# EAGLE library part DDRAM (library BaseApp)
DDRAM TSSOP-66
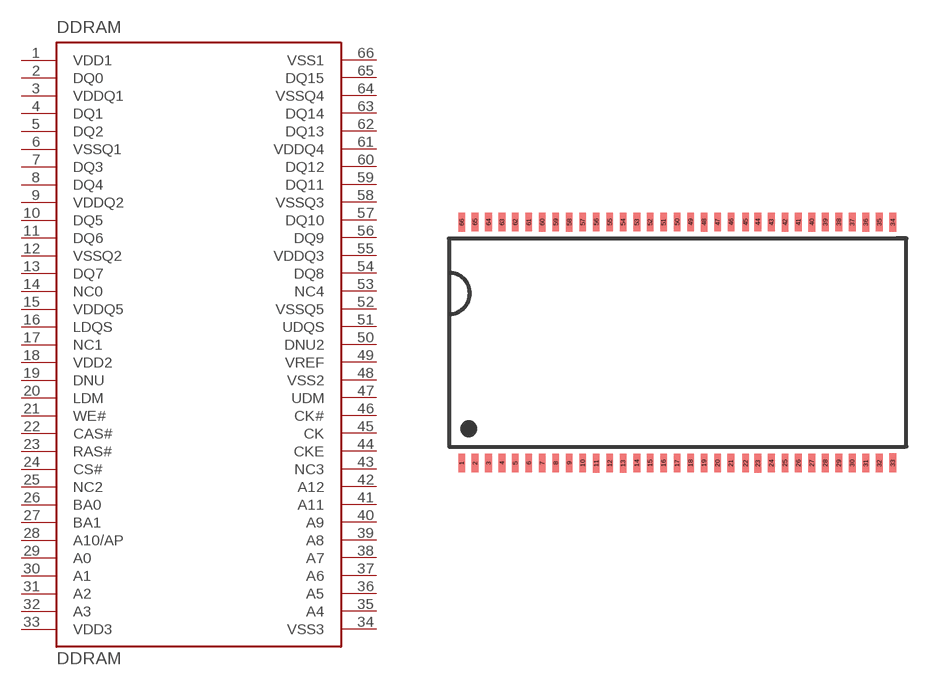
[diagram p1: symbol with the pads of 66TSSOP; footprint 66TSSOP]

Designator prefix DDRAM

## DDRAM-66PIN  [66TSSOP]
1  VDD1  pwr
2  DQ0
3  VDDQ1
4  DQ1
5  DQ2
6  VSSQ1
7  DQ3
8  DQ4
9  VDDQ2
10  DQ5
11  DQ6
12  VSSQ2
13  DQ7
14  NC0  nc
15  VDDQ5
16  LDQS
17  NC1  nc
18  VDD2
19  DNU
20  LDM
21  WE#
22  CAS#
23  RAS#
24  CS#
25  NC2  nc
26  BA0
27  BA1
28  A10/AP
29  A0
30  A1
31  A2
32  A3
33  VDD3
34  VSS3
35  A4
36  A5
37  A6
38  A7
39  A8
40  A9
41  A11
42  A12
43  NC3  nc
44  CKE
45  CK
46  CK#
47  UDM
48  VSS2
49  VREF
50  DNU2
51  UDQS
52  VSSQ5
53  NC4  nc
54  DQ8
55  VDDQ3
56  DQ9
57  DQ10
58  VSSQ3
59  DQ11
60  DQ12
61  VDDQ4
62  DQ13
63  DQ14
64  VSSQ4
65  DQ15
66  VSS1

## Footprint 66TSSOP (pad centres in mm)
smd 0.325 x 0.9: 1 -8.79,-5.52; 2 -8.148,-5.524; 3 -7.497,-5.52; 4 -6.848,-5.524; 5 -6.206,-5.528; 6 -5.555,-5.524; 7 -4.906,-5.523; 8 -4.254,-5.527; 9 -3.603,-5.523; 10 -2.954,-5.527; 11 -2.302,-5.531; 12 -1.651,-5.527; 13 -1.01,-5.532; 14 -0.348,-5.526; 15 0.293,-5.522; 16 0.942,-5.526; 17 1.594,-5.53; 18 2.245,-5.526; 19 2.894,-5.525; 20 3.546,-5.529; 21 4.187,-5.525; 22 4.896,-5.529; 23 5.488,-5.533; 24 6.139,-5.529; 25 6.799,-5.522; 26 7.441,-5.526; 27 8.092,-5.522; 28 8.741,-5.526; 29 9.393,-5.53; 30 10.038,-5.526; 31 10.693,-5.525; 32 11.345,-5.529; 33 11.996,-5.515; 34 11.996,6.08; 35 11.345,6.084; 36 10.693,6.08; 37 10.038,6.084; 38 9.393,6.088; 39 8.741,6.084; 40 8.092,6.083; 41 7.441,6.087; 42 6.799,6.083; 43 6.139,6.087; 44 5.488,6.091; 45 4.896,6.087; 46 4.2,6.092; 47 3.546,6.086; 48 2.894,6.082; 49 2.245,6.086; 50 1.596,6.09; 51 0.942,6.086; 52 0.293,6.085; 53 -0.348,6.089; 54 -1.01,6.085; 55 -1.651,6.089; 56 -2.302,6.093; 57 -2.954,6.089; 58 -3.603,6.082; 59 -4.254,6.086; 60 -4.906,6.082; 61 -5.555,6.086; 62 -6.206,6.09; 63 -6.848,6.086; 64 -7.497,6.085; 65 -8.148,6.089; 66 -8.79,6.075